# Altium schematic symbol library INTAN_AFE_V003.SchLib: 50 symbols
Pins are listed as number, name and electrical type; pins without a type are passive.

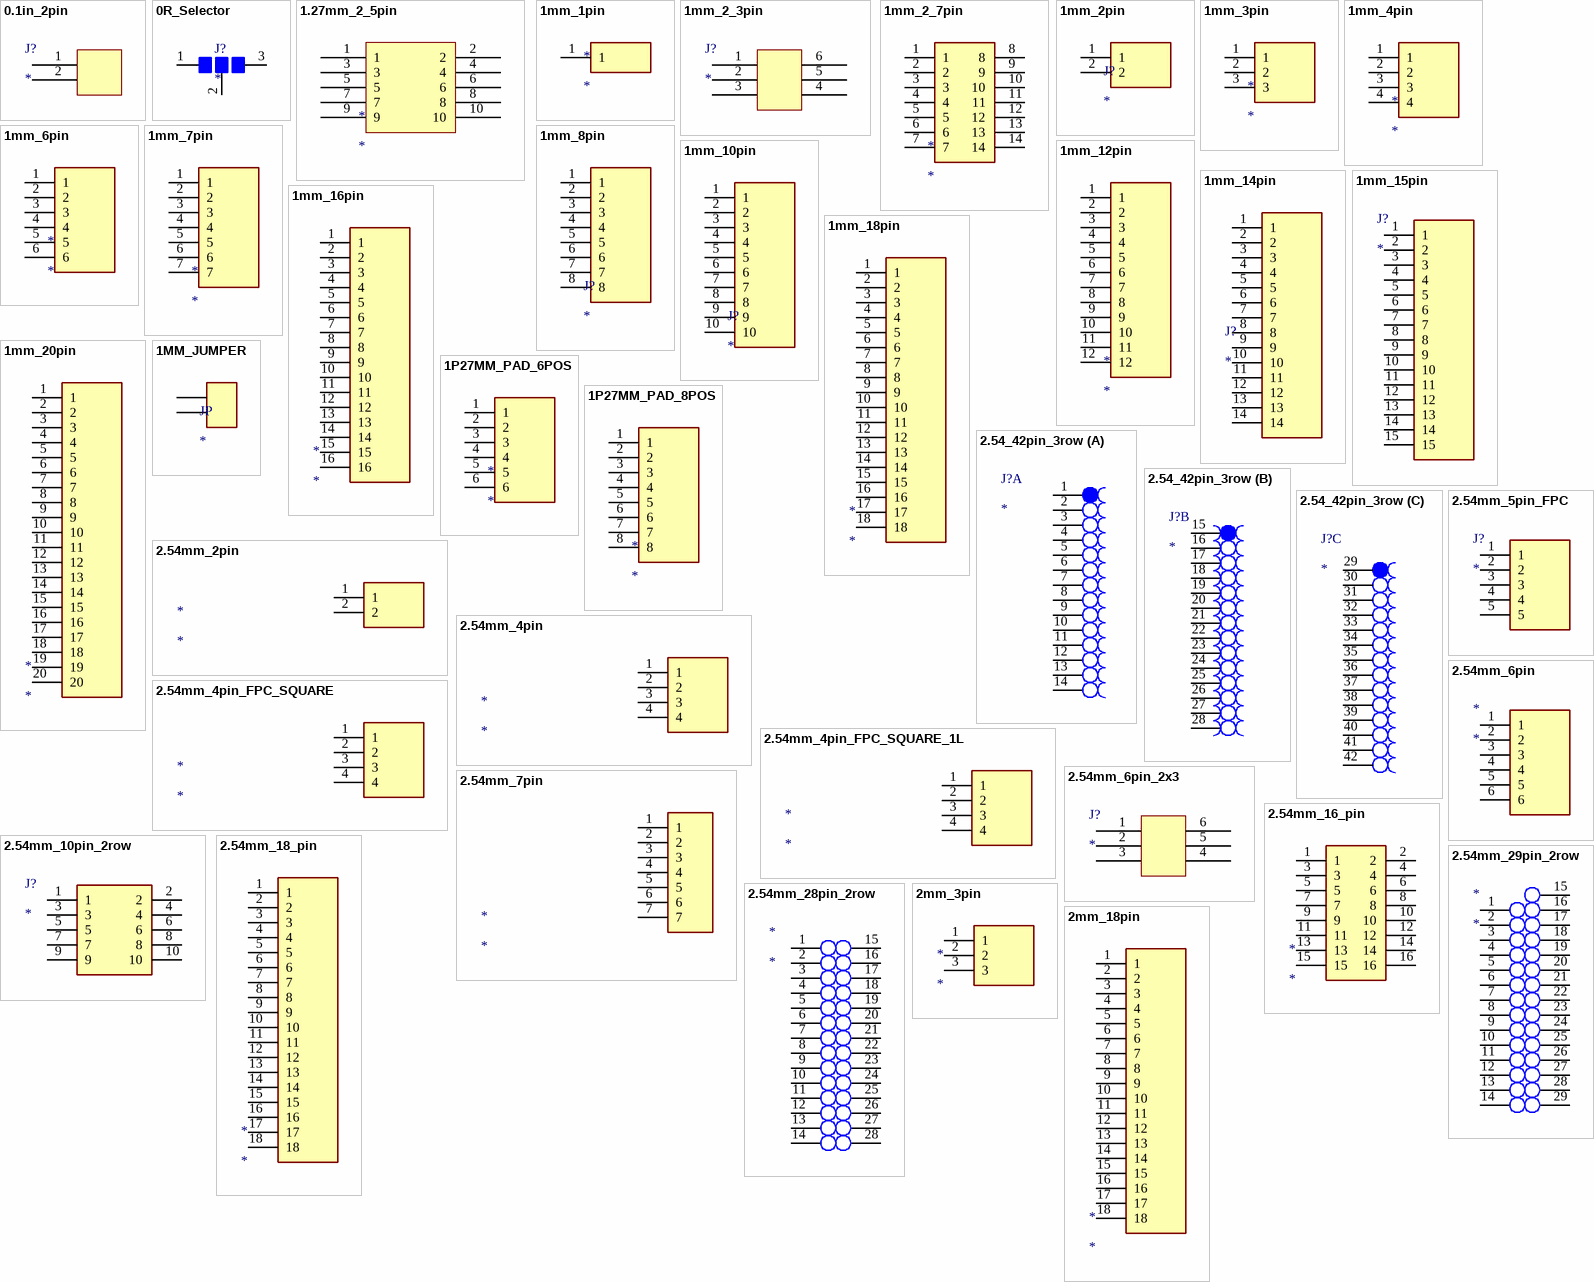
[diagram p0: symbols 0.1in_2pin to 2mm_18pin]

## 0.1in_2pin
designator J?
footprint 0.1in_2pin
pins: 1, 2

## 0R_Selector
designator J?
footprint 0R_0402_Selector
footprint 0R_0603_Selector
pins: 1, 2, 3

## 1.27mm_2_5pin
designator *
pins: 1, 2, 3, 4, 5, 6, 7, 8, 9, 10

## 1mm_1pin
designator *
pins: 1

## 1mm_2_3pin
designator J?
footprint 1mm_2_3pin
pins: 1, 2, 3, 4, 5, 6

## 1mm_2_7pin
designator *
pins: 1, 2, 3, 4, 5, 6, 7, 8, 9, 10, 11, 12, 13, 14

## 1mm_2pin
designator J?
footprint 1mm_2pin
pins: 1, 2

## 1mm_3pin
designator *
pins: 1, 2, 3

## 1mm_4pin
designator *
pins: 1, 2, 3, 4

## 1mm_6pin
designator *
footprint 1MM_6PIN_FCC_BOTH
footprint 1MM_6PIN_WIDEFCC_BOTH
pins: 1, 2, 3, 4, 5, 6

## 1mm_7pin
designator *
pins: 1, 2, 3, 4, 5, 6, 7

## 1mm_8pin
designator J?
footprint 1mm_8pin
pins: 1, 2, 3, 4, 5, 6, 7, 8

## 1mm_10pin
designator J?
footprint 1MM_10PIN_FFC
pins: 1, 2, 3, 4, 5, 6, 7, 8, 9, 10

## 1mm_12pin
designator *
pins: 1, 2, 3, 4, 5, 6, 7, 8, 9, 10, 11, 12

## 1mm_14pin
designator J?
footprint 1mm_14pin_FFC
footprint 1MM_14PIN_FCC_BOTH
footprint 1MM_14PIN_WIDEFCC_BOTH
pins: 1, 2, 3, 4, 5, 6, 7, 8, 9, 10, 11, 12, 13, 14

## 1mm_15pin
designator J?
footprint 1MM_15PIN_FCC
pins: 1, 2, 3, 4, 5, 6, 7, 8, 9, 10, 11, 12, 13, 14, 15

## 1mm_16pin
designator *
pins: 1, 2, 3, 4, 5, 6, 7, 8, 9, 10, 11, 12, 13, 14, 15, 16

## 1mm_18pin
designator *
pins: 1, 2, 3, 4, 5, 6, 7, 8, 9, 10, 11, 12, 13, 14, 15, 16, 17, 18

## 1mm_20pin
designator *
pins: 1, 2, 3, 4, 5, 6, 7, 8, 9, 10, 11, 12, 13, 14, 15, 16, 17, 18, 19, 20

## 1MM_JUMPER
designator JP
pins: 1, 2

## 1P27MM_PAD_6POS
designator *
pins: 1, 2, 3, 4, 5, 6

## 1P27MM_PAD_8POS
designator *
pins: 1, 2, 3, 4, 5, 6, 7, 8

## 2.54_42pin_3row
designator J?
footprint 2.54mm_42pin_3row
part A pins: 1, 2, 3, 4, 5, 6, 7, 8, 9, 10, 11, 12, 13, 14
part B pins: 15, 16, 17, 18, 19, 20, 21, 22, 23, 24, 25, 26, 27, 28
part C pins: 29, 30, 31, 32, 33, 34, 35, 36, 37, 38, 39, 40, 41, 42

## 2.54mm_2pin
designator *
footprint 2.54mm_2pin
pins: 1, 2

## 2.54mm_4pin
designator *
pins: 1, 2, 3, 4

## 2.54mm_4pin_FPC_SQUARE
designator *
footprint 2.54mm_4pin_FPC_SQUARE
pins: 1, 2, 3, 4

## 2.54mm_4pin_FPC_SQUARE_1L
designator *
footprint 2.54mm_4pin_FPC_SQUARE_1L
pins: 1, 2, 3, 4

## 2.54mm_5pin_FPC
designator J?
footprint 2.54mm_5pin_FPC_SQUARE_1L
pins: 1, 2, 3, 4, 5

## 2.54mm_6pin
designator *
footprint 2.54mm_6pin
pins: 1, 2, 3, 4, 5, 6

## 2.54mm_6pin_2x3
designator J?
footprint 2.54mm_6PIN_2X3
pins: 1, 2, 3, 4, 5, 6

## 2.54mm_7pin
designator *
footprint 2.54mm_7pin
pins: 1, 2, 3, 4, 5, 6, 7

## 2.54mm_10pin_2row
designator J?
footprint 2.54mm_10pin_2row
pins: 1, 2, 3, 4, 5, 6, 7, 8, 9, 10

## 2.54mm_16_pin
designator *
pins: 1, 2, 3, 4, 5, 6, 7, 8, 9, 10, 11, 12, 13, 14, 15, 16

## 2.54mm_18_pin
designator *
pins: 1, 2, 3, 4, 5, 6, 7, 8, 9, 10, 11, 12, 13, 14, 15, 16, 17, 18

## 2.54mm_28pin_2row
designator *
footprint 2.54MM_28PIN_2ROW
pins: 1, 2, 3, 4, 5, 6, 7, 8, 9, 10, 11, 12, 13, 14, 15, 16, 17, 18, 19, 20, 21, 22, 23, 24, 25, 26, 27, 28

## 2.54mm_29pin_2row
designator *
footprint 2.54mm_29PIN_2ROW
pins: 1, 2, 3, 4, 5, 6, 7, 8, 9, 10, 11, 12, 13, 14, 15, 16, 17, 18, 19, 20, 21, 22, 23, 24, 25, 26, 27, 28, 29

## 2mm_3pin
designator *
pins: 1, 2, 3

## 2mm_18pin
designator *
pins: 1, 2, 3, 4, 5, 6, 7, 8, 9, 10, 11, 12, 13, 14, 15, 16, 17, 18

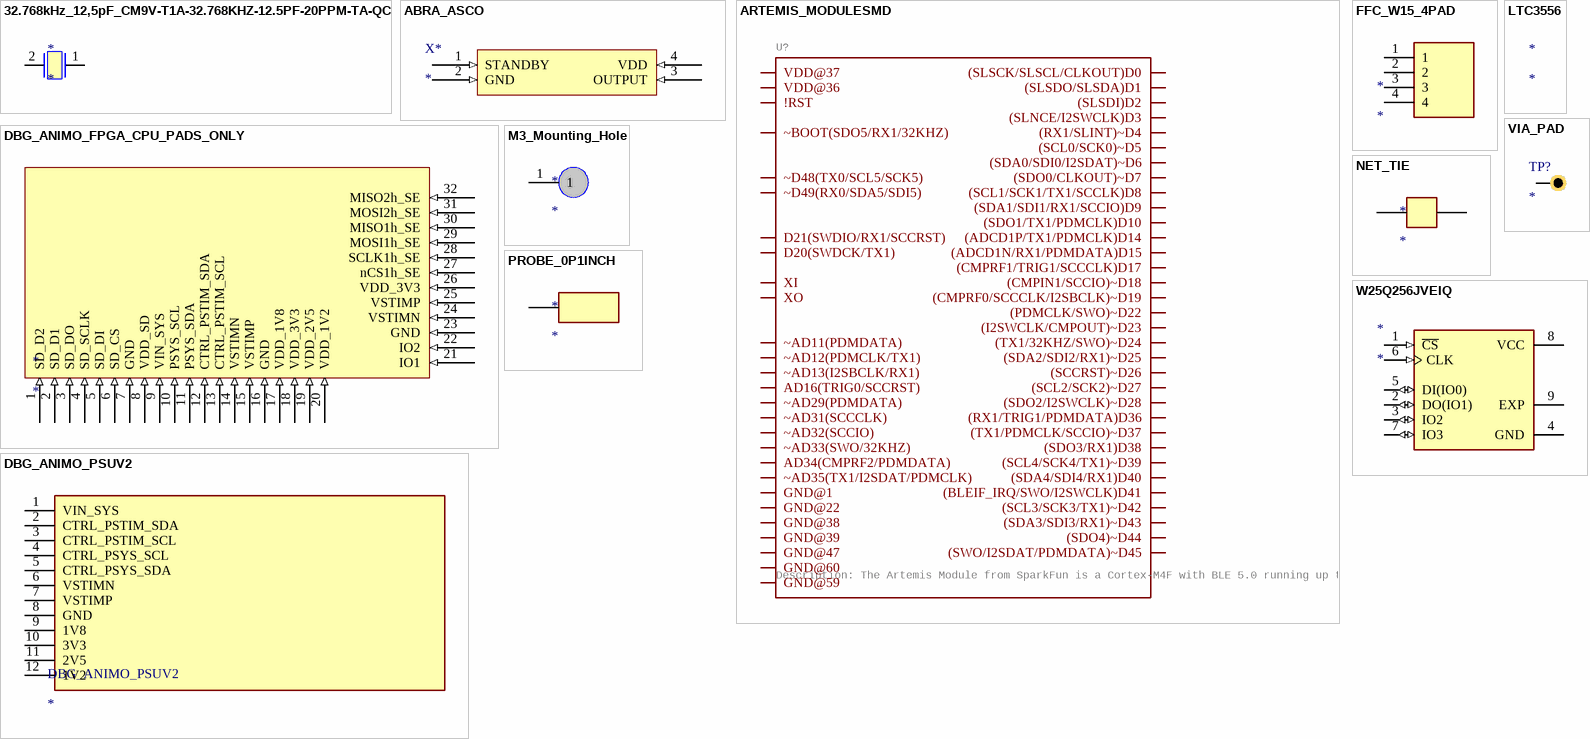
[diagram p1: symbols 32.768kHz_12,5pF_CM9V-T1A-32.768KHZ-12.5PF-20PPM-TA-QC to W25Q256JVEIQ]

## 32.768kHz_12,5pF_CM9V-T1A-32.768KHZ-12.5PF-20PPM-TA-QC
designator *
footprint 32,786_12,5pF
pins: 1, 2

## ABRA_ASCO
designator X*
pins: 1 STANDBY (in), 2 GND (in), 3 OUTPUT (in), 4 VDD (in)

## ARTEMIS_MODULESMD
designator U?, comment Description: The Artemis Module from SparkFun is a Cortex-M4F with BLE 5.0 running up to 96MHz and with as low power as 6uA per MHz (less than 5mW). This is the world's first module to bridge the market between hobbyists and consumer products. We've packaged all the power of a modern microcontroller into a module that is both extremely easy to use but is mass-market ready. The flexibility of the Artemis module starts with our [Arduino core](https://github.com/sparkfun/Arduino_Apollo3). You can program and use the Artemis module just like you would an Uno or any other Arduino. Time to first blink is just 5 minutes away! We built the core from the ground up, making it fast and as light weight as possible.
GateName_1: U1; SymbolName_1: ARTEMIS_MODULE; DeviceName: SMD; PROD_ID: SUB-14402; LibraryName: SparkFun-IC-Microcontroller; DeviceSetName: ARTEMIS_MODULE; Package: ARTEMIS_FP
footprint ARTEMIS_FP
pins: AD16 AD16(TRIG0/SCCRST) (io), AD34 AD34(CMPRF2/PDMDATA) (io), BOOT ~BOOT(SDO5/RX1/32KHZ) (io), D0 (SLSCK/SLSCL/CLKOUT)D0 (io), D1 (SLSDO/SLSDA)D1 (io), D2 (SLSDI)D2 (io), D3 (SLNCE/I2SWCLK)D3 (io), D7 (SDO0/CLKOUT)~D7 (io), D8 (SCL1/SCK1/TX1/SCCLK)D8 (io), D9 (SDA1/SDI1/RX1/SCCIO)D9 (io), D10 (SDO1/TX1/PDMCLK)D10 (io), D14 (ADCD1P/TX1/PDMCLK)D14 (io), D15 (ADCD1N/RX1/PDMDATA)D15 (io), D17 (CMPRF1/TRIG1/SCCCLK)D17 (io), D36 (RX1/TRIG1/PDMDATA)D36 (io), D38 (SDO3/RX1)D38 (io), D40 (SDA4/SDI4/RX1)D40 (io), D41 (BLEIF_IRQ/SWO/I2SWCLK)D41 (io), GND@1 (io), GND@22 (io), GND@38 (io), GND@39 (io), GND@47 (io), GND@59 (io), GND@60 (io), RXI-0 ~D49(RX0/SDA5/SDI5) (io), SWDCK D20(SWDCK/TX1) (io), SWDIO D21(SWDIO/RX1/SCCRST) (io), TXO-0 ~D48(TX0/SCL5/SCK5) (io), VDD@36 (io), VDD@37 (io), XI (io), XO (io), ~AD11 ~AD11(PDMDATA) (io), ~AD12 ~AD12(PDMCLK/TX1) (io), ~AD13 ~AD13(I2SBCLK/RX1) (io), ~AD29 ~AD29(PDMDATA) (io), ~AD31 ~AD31(SCCCLK) (io), ~AD32 ~AD32(SCCIO) (io), ~AD33/SWO ~AD33(SWO/32KHZ) (io), ~AD35 ~AD35(TX1/I2SDAT/PDMCLK) (io), ~D4 (RX1/SLINT)~D4 (io), ~D5 (SCL0/SCK0)~D5 (io), ~D6 (SDA0/SDI0/I2SDAT)~D6 (io), ~D18 (CMPIN1/SCCIO)~D18 (io), ~D19 (CMPRF0/SCCCLK/I2SBCLK)~D19 (io), ~D22 (PDMCLK/SWO)~D22 (io), ~D23 (I2SWCLK/CMPOUT)~D23 (io), ~D24 (TX1/32KHZ/SWO)~D24 (io), ~D25 (SDA2/SDI2/RX1)~D25 (io), ~D26 (SCCRST)~D26 (io), ~D27 (SCL2/SCK2)~D27 (io), ~D28 (SDO2/I2SWCLK)~D28 (io), ~D37 (TX1/PDMCLK/SCCIO)~D37 (io), ~D39 (SCL4/SCK4/TX1)~D39 (io), ~D42 (SCL3/SCK3/TX1)~D42 (io), ~D43 (SDA3/SDI3/RX1)~D43 (io), ~D44 (SDO4)~D44 (io), ~D45 (SWO/I2SDAT/PDMDATA)~D45 (io), ~RST !RST (io)

## DBG_ANIMO_FPGA_CPU_PADS_ONLY
designator *
pins: 1 SD_D2 (in), 2 SD_D1 (in), 3 SD_DO (in), 4 SD_SCLK (in), 5 SD_DI (in), 6 SD_CS (in), 7 GND (in), 8 VDD_SD (in), 9 VIN_SYS (in), 10 PSYS_SCL (in), 11 PSYS_SDA (in), 12 CTRL_PSTIM_SDA (in), 13 CTRL_PSTIM_SCL (in), 14 VSTIMN (in), 15 VSTIMP (in), 16 GND (in), 17 VDD_1V8 (in), 18 VDD_3V3 (in), 19 VDD_2V5 (in), 20 VDD_1V2 (in), 21 IO1 (in) "GND", 22 IO2 (in) "VSTIMN", 23 GND (in) "VSTIMP", 24 VSTIMN (in) "VDD_3V3", 25 VSTIMP (in) "CS1N", 26 VDD_3V3 (in) "CS1P", 27 nCS1h_SE (in) "SCLKN", 28 SCLK1h_SE (in) "SCLKP", 29 MOSI1h_SE (in) "MOSIN", 30 MISO1h_SE (in) "MOSIP", 31 MOSI2h_SE (in) "MISON", 32 MISO2h_SE (in) "MISOP"

## DBG_ANIMO_PSUV2
designator DBG_ANIMO_PSUV2
pins: 1 VIN_SYS, 2 CTRL_PSTIM_SDA, 3 CTRL_PSTIM_SCL, 4 CTRL_PSYS_SCL, 5 CTRL_PSYS_SDA, 6 VSTIMN, 7 VSTIMP, 8 GND, 9 1V8, 10 3V3, 11 2V5, 12 1V2

## FFC_W15_4PAD
designator *
footprint FFC_W15MM_4PAD
pins: 1, 2, 3, 4

## LTC3556
designator *

## M3_Mounting_Hole
designator *
pins: 1

## NET_TIE
designator *
pins: 1, 2

## PROBE_0P1INCH
designator *
pins: 1

## VIA_PAD
designator TP?
footprint VIA_PAD_025MILID_045MILOD
pins: 1

## W25Q256JVEIQ
designator *
pins: 1 ~{CS} (in), 2 DO(IO1) (io), 3 IO2 (io), 4 GND (power), 5 DI(IO0) (io), 6 CLK (in), 7 IO3 (io), 8 VCC (power), 9 EXP (power)